# EAGLE library part L6225 (library L6225)
DMOS DUAL FULL BRIDGE DRIVER
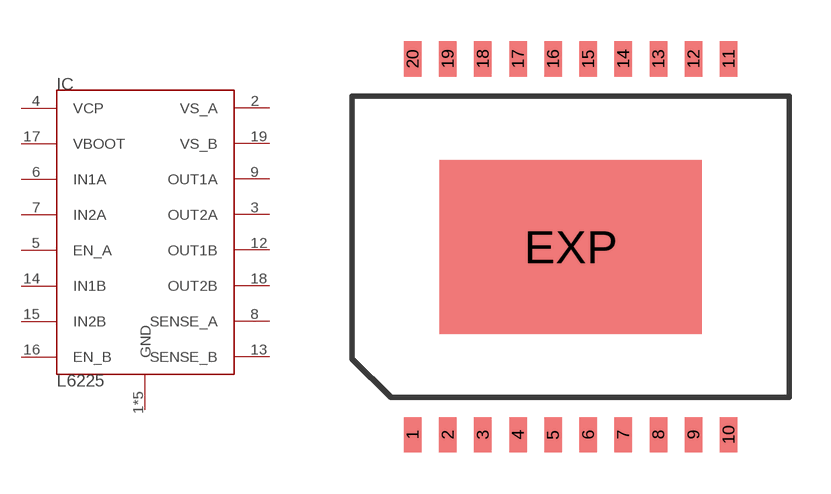
[diagram p0: symbol with the pads of POWER-SO20; footprint POWER-SO20]

Designator prefix IC

## L6225PD  [POWER-SO20]
1  GND
2  VS_A
3  OUT2A
4  VCP
5  EN_A
6  IN1A
7  IN2A
8  SENSE_A
9  OUT1A
10  GND
11  GND
12  OUT1B
13  SENSE_B
14  IN1B
15  IN2B
16  EN_B
17  VBOOT
18  OUT2B
19  VS_B
20  GND
EXP  GND

## Footprint POWER-SO20 (pad centres in mm)
PowerSO20
smd 0.635 x 1.27: 1 -5.715,-6.8; 2 -4.445,-6.8; 3 -3.175,-6.8; 4 -1.905,-6.8; 5 -0.635,-6.8; 6 0.635,-6.8; 7 1.905,-6.8; 8 3.175,-6.8; 9 4.445,-6.8; 10 5.715,-6.8; 11 5.715,6.8; 12 4.445,6.8; 13 3.175,6.8; 14 1.905,6.8; 15 0.635,6.8; 16 -0.635,6.8; 17 -1.905,6.8; 18 -3.175,6.8; 19 -4.445,6.8; 20 -5.715,6.8
smd 9.5 x 6.3: EXP 0,0